# Altium schematic symbol library SVN_gost.SchLib: 41 symbols
Pins are listed as number, name and electrical type; pins without a type are passive.

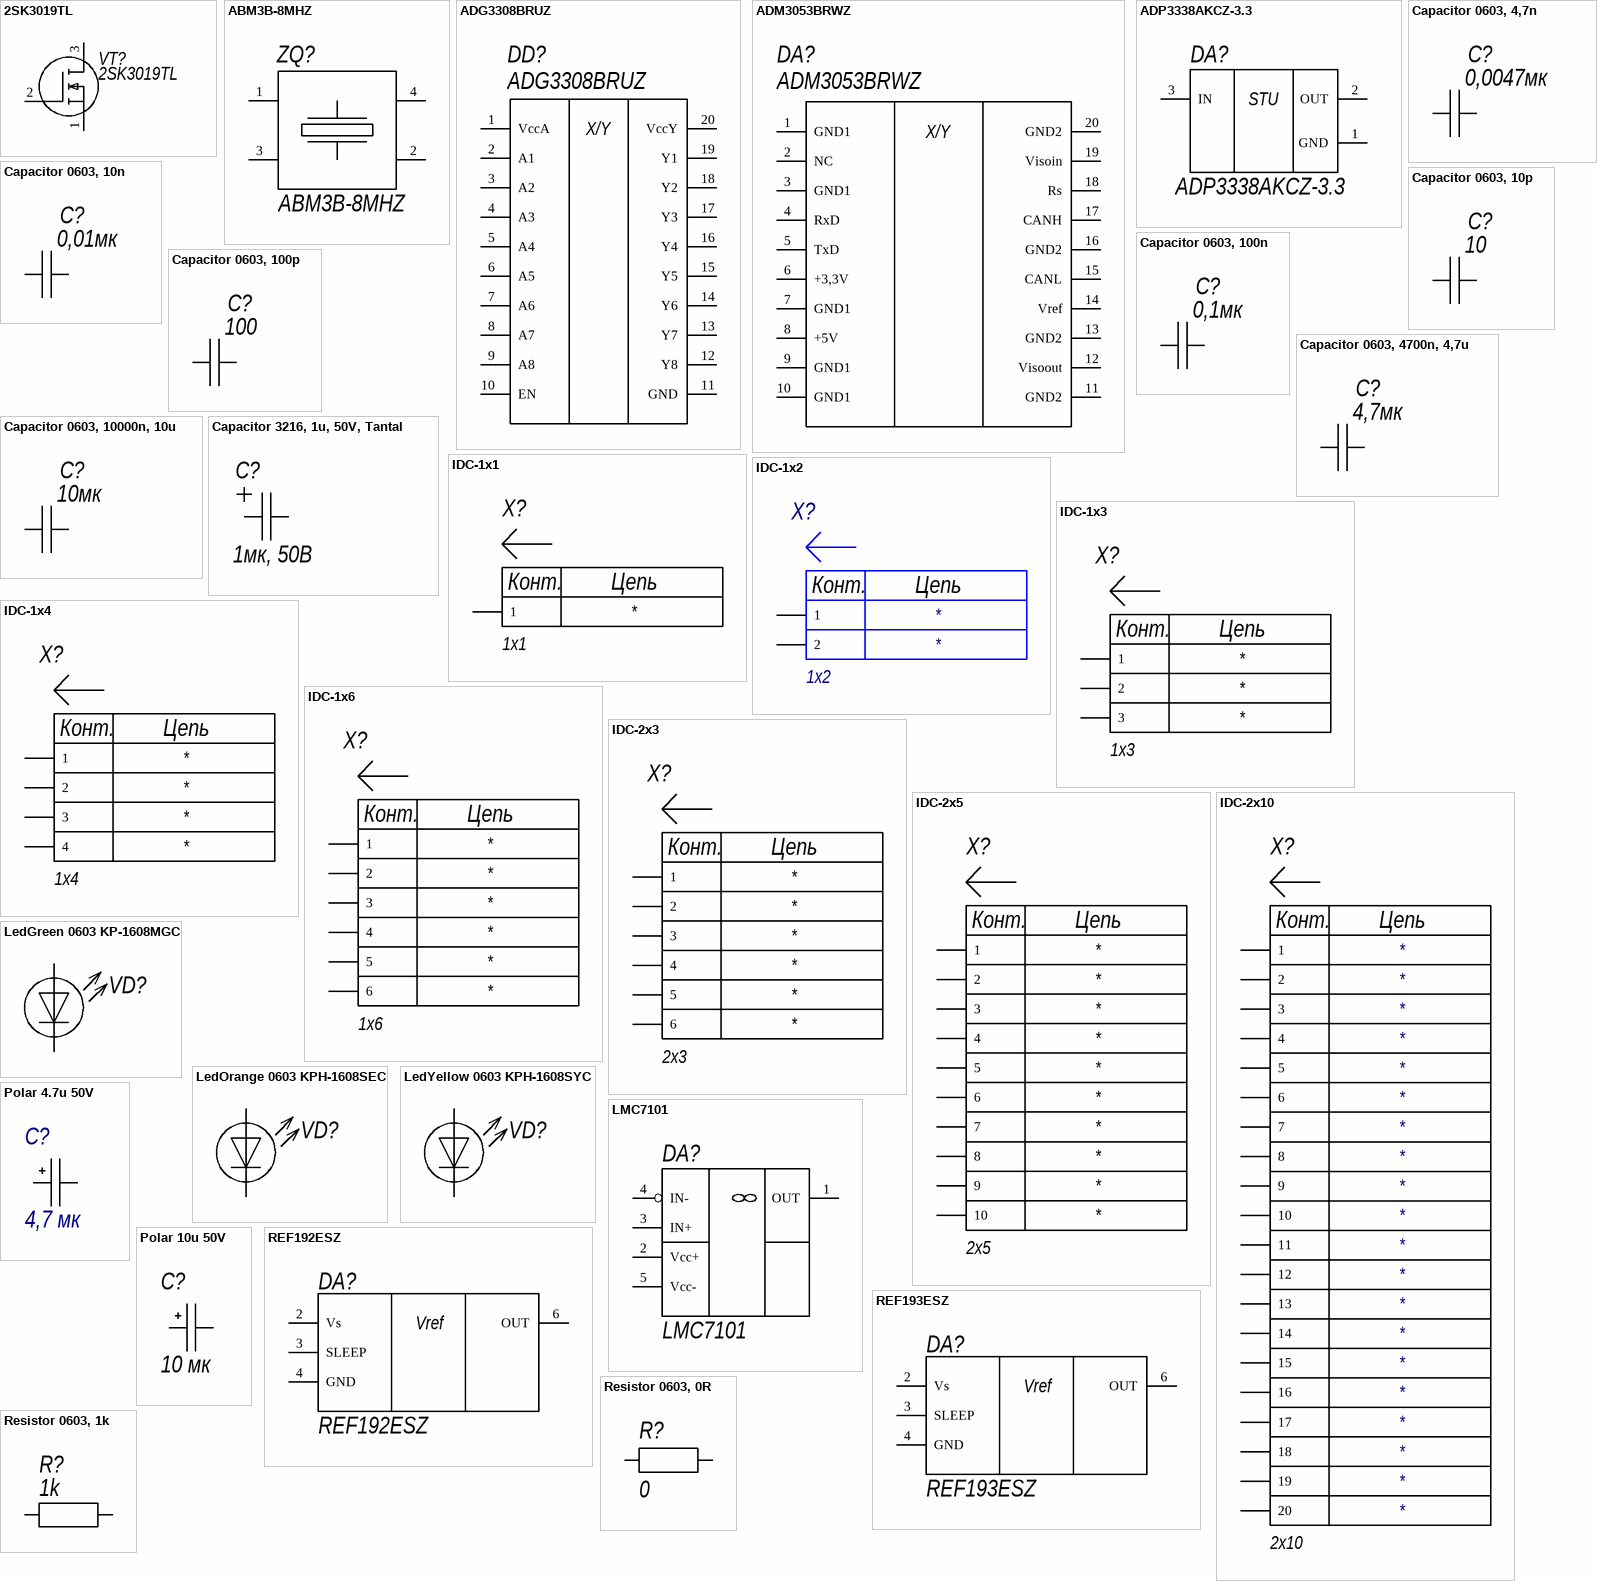
[diagram p0: symbols 2SK3019TL to Resistor 0603, 1k]

## 2SK3019TL
designator VT?
MOSFET (N-Channel); Manufacturer_Name: ROHM Semiconductor; Datasheet Link: http://www.mouser.com/ds/2/348/2sk3019-208766.pdf; Height: 0.8mm; Manufacturer_Part_Number: 2SK3019TL; Mouser Part Number: 755-2SK3019TL; Mouser Price/Stock: https://www.mouser.co.uk/ProductDetail/ROHM-Semiconductor/2SK3019TL?qs=4kLU8WoGk0vQcc5cG%2F%2FTDQ%3D%3D
footprint 2SK3019TL
pins: 1 S, 2 G, 3 D

## ABM3B-8MHZ
designator ZQ?
ABM3B-8MHZ, Кварцевый резонатор, 8МГц, QSMD5x3.2x1.1
footprint Quartz 5x3.2 mm
pins: 1 17, 2, 3, 4

## ADG3308BRUZ
designator DD?
ADG3308BRUZ, Согласователь уровней напряжения, двунаправленный
footprint SOP65P640X120-20N
pins: 1 VccA, 2 A1, 3 A2, 4 A3, 5 A4, 6 A5, 7 A6, 8 A7, 9 A8, 10 EN, 11 GND, 12 Y8, 13 Y7, 14 Y6, 15 Y5, 16 Y4, 17 Y3, 18 Y2, 19 Y1, 20 VccY
text: X/Y

## ADM3053BRWZ
designator DA?
ADM3053BRWZ, Изолированный трансивер шины CAN
footprint SOIC127P1032X265-20N
pins: 1 GND1, 2 NC, 3 GND1, 4 RxD, 5 TxD, 6 +3,3V, 7 GND1, 8 +5V, 9 GND1, 10 GND1, 11 GND2, 12 Visoout, 13 GND2, 14 Vref, 15 CANL, 16 GND2, 17 CANH, 18 Rs, 19 Visoin, 20 GND2
text: X/Y

## ADP3338AKCZ-3.3
designator DA?
ADP3338AKCZ-3.3, Регулятор с малым падением напряжения, 5->3.3В, 1А
footprint SOT-223 \w pad (TO-261-AA)
pins: 1 GND, 2 OUT, 3 IN
text: STU

## Capacitor 0603, 4,7n
designator C?, comment value 0,0047мк  (hidden comment: C0603)
Керамический, 0603, 0,0047мкФ, ±1%, 16В
footprint C_0603 (Chip Capacitor, Body 1.0x0.55mm, IPC Medium Density)
pins: 1, 2

## Capacitor 0603, 10n
designator C?, comment value 0,01мк  (hidden comment: C0603)
Керамический, 0603, 0,01мкФ, ±1%, 16В
footprint C_0603 (Chip Capacitor, Body 1.0x0.55mm, IPC Medium Density)
pins: 1, 2

## Capacitor 0603, 10p
designator C?, comment value 10  (hidden comment: C0603)
Керамический, 0603, 10пФ, ±1%, 16В
footprint C_0603 (Chip Capacitor, Body 1.0x0.55mm, IPC Medium Density)
pins: 1, 2

## Capacitor 0603, 100n
designator C?, comment value 0,1мк  (hidden comment: C0603)
Керамический, 0603, 0,1мкФ, ±1%, 16В
footprint C_0603 (Chip Capacitor, Body 1.0x0.55mm, IPC Medium Density)
pins: 1, 2

## Capacitor 0603, 100p
designator C?, comment value 100  (hidden comment: C0603)
Керамический, 0603, 100пФ, ±1%, 16В
footprint C_0603 (Chip Capacitor, Body 1.0x0.55mm, IPC Medium Density)
pins: 1, 2

## Capacitor 0603, 4700n, 4,7u
designator C?, comment value 4,7мк  (hidden comment: C0603)
Керамический, 0603, 4,7мкФ, ±1%, 16В
footprint C_0603 (Chip Capacitor, Body 1.0x0.55mm, IPC Medium Density)
pins: 1, 2

## Capacitor 0603, 10000n, 10u
designator C?, comment value 10мк  (hidden comment: C0603)
Керамический, 0603, 10мкФ, ±1%, 16В
footprint C_0603 (Chip Capacitor, Body 1.0x0.55mm, IPC Medium Density)
pins: 1, 2

## Capacitor 3216, 1u, 50V, Tantal
designator C?, comment 1мк, 50В
Танталовый, 3216, 1мкФ±1%, 50В; Type: *; Value: 1мк, 50В
footprint C_3216_1206_TypeA (Capacitor, Polarized, Molded  Body 3.2x1.6mm, IPC Medium Density)
pins: 1, 2

## IDC-1x1
designator X?, comment 1x1
Разъем на плату 1 контакт, 1 ряд, шаг 2,54 мм; Parameter 1: *
footprint Header_1x3_PLD (3 Contacts - Pitch 2.54mm - Dual Row Through Mount Straight Header (Post Lead = 6.35mm, Tail Lead 3.05mm, Insulator 1.52mm))
footprint Header_1x3_WF-3 (4 Contacts - Pitch 2.54mm - Dual Row Through Mount Straight Header (Post Lead = 6.35mm, Tail Lead 3.05mm, Insulator 1.52mm))
footprint Header_1x3_WF-3R (4 Contacts - Pitch 2.54mm - Dual Row Through Mount Straight Header (Post Lead = 6.35mm, Tail Lead 3.05mm, Insulator 1.52mm))
footprint KLS2-104-5.00-02P-4S (Винтовой клеммник 5мм, 45 град.)
pins: 1
text: Конт.; Цепь

## IDC-1x2
designator X?, comment 1x2
Разъем на плату 2 контактa, 1 ряд, шаг 2,54 мм; Parameter 2: *; Parameter 1: *
footprint Header_1x3_PLD (3 Contacts - Pitch 2.54mm - Dual Row Through Mount Straight Header (Post Lead = 6.35mm, Tail Lead 3.05mm, Insulator 1.52mm))
footprint Header_1x3_WF-3 (4 Contacts - Pitch 2.54mm - Dual Row Through Mount Straight Header (Post Lead = 6.35mm, Tail Lead 3.05mm, Insulator 1.52mm))
footprint Header_1x3_WF-3R (4 Contacts - Pitch 2.54mm - Dual Row Through Mount Straight Header (Post Lead = 6.35mm, Tail Lead 3.05mm, Insulator 1.52mm))
footprint KLS2-104-5.00-02P-4S (Винтовой клеммник 5мм, 45 град.)
pins: 1, 2
text: Конт.; Цепь

## IDC-1x3
designator X?, comment 1x3
Разъем на плату 3 контактa, 1 ряд, шаг 2,54 мм; Parameter 3: *; Parameter 2: *; Parameter 1: *
footprint Header_1x3_PLD (3 Contacts - Pitch 2.54mm - Dual Row Through Mount Straight Header (Post Lead = 6.35mm, Tail Lead 3.05mm, Insulator 1.52mm))
footprint Header_1x3_WF-3 (4 Contacts - Pitch 2.54mm - Dual Row Through Mount Straight Header (Post Lead = 6.35mm, Tail Lead 3.05mm, Insulator 1.52mm))
footprint Header_1x3_WF-3R (4 Contacts - Pitch 2.54mm - Dual Row Through Mount Straight Header (Post Lead = 6.35mm, Tail Lead 3.05mm, Insulator 1.52mm))
pins: 1, 2, 3
text: Конт.; Цепь

## IDC-1x4
designator X?, comment 1x4
Разъем на плату 4 контактa, 1 ряд, шаг 2,54 мм; Parameter 4: *; Parameter 3: *; Parameter 2: *; Parameter 1: *
footprint Header_1x4_PLD (6 Contacts - Pitch 2.54mm - Single Row Through Mount Straight Header (Post Lead = 6.35mm, Tail Lead 3.05mm, Insulator 1.52mm))
pins: 1, 2, 3, 4
text: Конт.; Цепь

## IDC-1x6
designator X?, comment 1x6
Разъем на плату 6 контактов, 1 ряд, шаг 2,54 мм; Parameter 6: *; Parameter 5: *; Parameter 4: *; Parameter 3: *; Parameter 2: *; Parameter 1: *
footprint Header_1x6_PLD (6 Contacts - Pitch 2.54mm - Single Row Through Mount Straight Header (Post Lead = 6.35mm, Tail Lead 3.05mm, Insulator 1.52mm))
pins: 1, 2, 3, 4, 5, 6
text: Конт.; Цепь

## IDC-2x3
designator X?, comment 2x3
Разъем на плату 6 контактов, 2 ряда, шаг 2,54 мм; Parameter 6: *; Parameter 5: *; Parameter 4: *; Parameter 3: *; Parameter 2: *; Parameter 1: *
footprint Header_2x3_BH (BH-6_IDC-6_DS-1013-06S)
footprint Header_2x3_BH_ang (BH-6R_IDC-6MR_DS-1013-06R)
footprint Header_2x3_PLD (6 Contacts - Pitch 2.54mm - Dual Row Through Mount Straight Header (Post Lead = 6.35mm, Tail Lead 3.05mm, Insulator 1.52mm))
footprint Header_2x3_PLD_ang
footprint Feader_2x3 (6 Contacts - Pitch 2.54mm - Dual Row Through Mount Straight Header (Post Lead = 6.35mm, Tail Lead 3.05mm, Insulator 1.52mm))
pins: 1, 2, 3, 4, 5, 6
text: Конт.; Цепь

## IDC-2x5
designator X?, comment 2x5
Разъем на плату 10 контактов, 2 ряда, шаг 2,54 мм; Parameter 10: *; Parameter 8: *; Parameter 9: *; Parameter 7: *; Parameter 6: *; Parameter 5: *; Parameter 4: *; Parameter 3: *; Parameter 2: *; Parameter 1: *
footprint Header_2x5_BH (BH-10_IDC-10_DS-1013-10S)
pins: 1, 2, 3, 4, 5, 6, 7, 8, 9, 10
text: Конт.; Цепь

## IDC-2x10
designator X?, comment 2x10
Разъем на плату 20 контактов, 2 ряда, шаг 2,54 мм; Parameter 20: *; Parameter 19: *; Parameter 18: *; Parameter 17: *; Parameter 16: *; Parameter 15: *; Parameter 14: *; Parameter 13: *; Parameter 12: *; Parameter 11: *; Parameter 10: *; Parameter 8: *; Parameter 9: *; Parameter 7: *; Parameter 6: *; Parameter 5: *; Parameter 4: *; Parameter 3: *; Parameter 2: *; Parameter 1: *
footprint Header_2x10_BH (BH-20_IDC-20_DS-1013-20S)
pins: 1, 2, 3, 4, 5, 6, 7, 8, 9, 10, 11, 12, 13, 14, 15, 16, 17, 18, 19, 20
text: Конт.; Цепь

## LedGreen 0603 KP-1608MGC
designator VD?
KP-1608MGC, светодиод зеленый, 0603
footprint Led_0603_GREEN (GREEN)
footprint Led_0603_Orange (Orange)
footprint Led_0603_RED (RED)
footprint Led_0603_YELLOW (YELLOW)
pins: 1, 2

## LedOrange 0603 KPH-1608SEC
designator VD?
KPH-1608SEC, светодиод оранжевый, 0603
footprint Led_0603_GREEN (GREEN)
footprint Led_0603_Orange (Orange)
footprint Led_0603_RED (RED)
footprint Led_0603_YELLOW (YELLOW)
pins: 1, 2

## LedYellow 0603 KPH-1608SYC
designator VD?
KPH-1608SYC, светодиод желтый, 0603
footprint Led_0603_GREEN (GREEN)
footprint Led_0603_Orange (Orange)
footprint Led_0603_RED (RED)
footprint Led_0603_YELLOW (YELLOW)
pins: 1, 2

## LMC7101
designator DA?
LMC7101, операционный усилитель, Rail-to-Rail; Type: OP07CP
footprint SOT23-5
pins: 1 OUT, 2 Vcc+, 3 IN+, 4 IN-, 5 Vcc-

## Polar 4.7u 50V
designator C?, comment value 4,7 мк  (hidden comment: Jamicon TK 4.7u 50V)
Polar 4.7u 50V; Type: *
footprint Polar_D5mm_F2mm_H11
pins: 1, 2

## Polar 10u 50V
designator C?, comment value 10 мк  (hidden comment: Jamicon TK 10u 50V)
Polar 10u 50V; Type: *
footprint C_3216_1206_TypeA (Capacitor, Polarized, Molded  Body 3.2x1.6mm, IPC Medium Density)
pins: 1, 2

## REF192ESZ
designator DA?
REF192ESZ, Источник опорного напряжения, питание 5В, выход 2,5В, 30мА
footprint SOIC127P600X175-8N
pins: 2 Vs, 3 SLEEP, 4 GND, 6 OUT
text: Vref

## REF193ESZ
designator DA?
REF193ESZ, Источник опорного напряжения, питание 5В, выход 3В, 30мА
footprint SOIC127P600X175-8N
pins: 2 Vs, 3 SLEEP, 4 GND, 6 OUT
text: Vref

## Resistor 0603, 0R
designator R?  value 0
Чип 0603, 0Ом, ±1%; Type: *
footprint R_0603 (Chip Resistor, EIA 0201, Metric 0603, Body 0.6 x 0.3mm, IPC Medium Density)
pins: 1, 2

## Resistor 0603, 1k
designator R?  value 1k
Чип 0603, 1кОм, ±1%; Type: *
footprint R_0603 (Chip Resistor, EIA 0201, Metric 0603, Body 0.6 x 0.3mm, IPC Medium Density)
pins: 1, 2

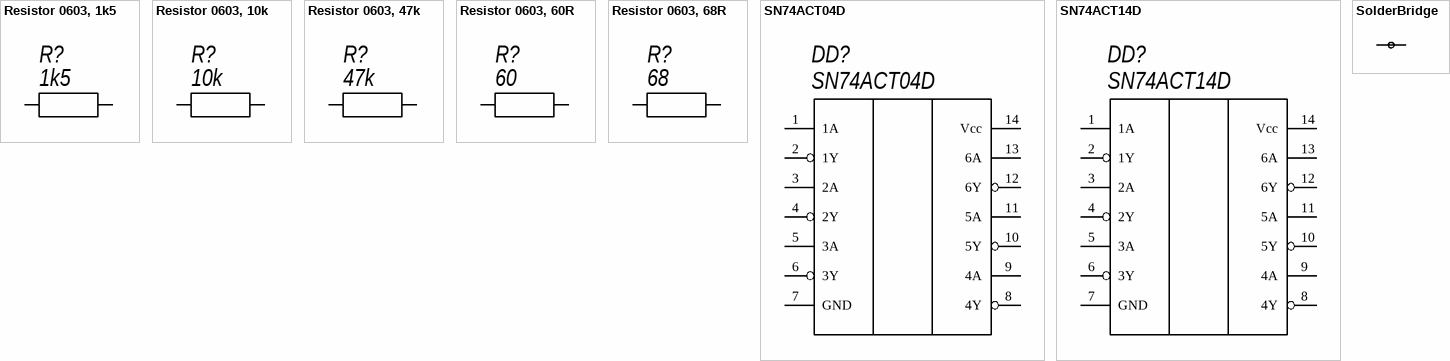
[diagram p1: symbols Resistor 0603, 1k5 to SolderBridge]

## Resistor 0603, 1k5
designator R?  value 1k5
Чип 0603, 1,5кОм, ±1%; Type: *
footprint R_0603 (Chip Resistor, EIA 0201, Metric 0603, Body 0.6 x 0.3mm, IPC Medium Density)
pins: 1, 2

## Resistor 0603, 10k
designator R?  value 10k
Чип 0603, 10кОм, ±1%; Type: *
footprint R_0603 (Chip Resistor, EIA 0201, Metric 0603, Body 0.6 x 0.3mm, IPC Medium Density)
pins: 1, 2

## Resistor 0603, 47k
designator R?  value 47k
Чип 0603, 47кОм, ±1%; Type: *
footprint R_0603 (Chip Resistor, EIA 0201, Metric 0603, Body 0.6 x 0.3mm, IPC Medium Density)
pins: 1, 2

## Resistor 0603, 60R
designator R?  value 60
Чип 0603, 60Ом, ±1%; Type: *
footprint R_0603 (Chip Resistor, EIA 0201, Metric 0603, Body 0.6 x 0.3mm, IPC Medium Density)
pins: 1, 2

## Resistor 0603, 68R
designator R?  value 68
Чип 0603, 68Ом, ±1%; Type: *
footprint R_0603 (Chip Resistor, EIA 0201, Metric 0603, Body 0.6 x 0.3mm, IPC Medium Density)
pins: 1, 2

## SN74ACT04D
designator DD?
SN74ACT04, Инвертер 6-ти канальный
footprint SOIC127P600X175-14N
pins: 1 1A, 2 1Y, 3 2A, 4 2Y, 5 3A, 6 3Y, 7 GND, 8 4Y, 9 4A, 10 5Y, 11 5A, 12 6Y, 13 6A, 14 Vcc

## SN74ACT14D
designator DD?
SN74ACT14, Триггер Шмитта инвертирующий, 6-ти канальный
footprint SOIC127P600X175-14N
pins: 1 1A, 2 1Y, 3 2A, 4 2Y, 5 3A, 6 3Y, 7 GND, 8 4Y, 9 4A, 10 5Y, 11 5A, 12 6Y, 13 6A, 14 Vcc

## SolderBridge
designator NT?  (value not drawn)  (net tie, no BOM)
Перемычка! в перечне не нужна!
footprint SB_1(E)
footprint SB_1(CO)
footprint SB_1(>>)
footprint NetTie
pins: 1, 2
1 alternate drawing of the same symbol

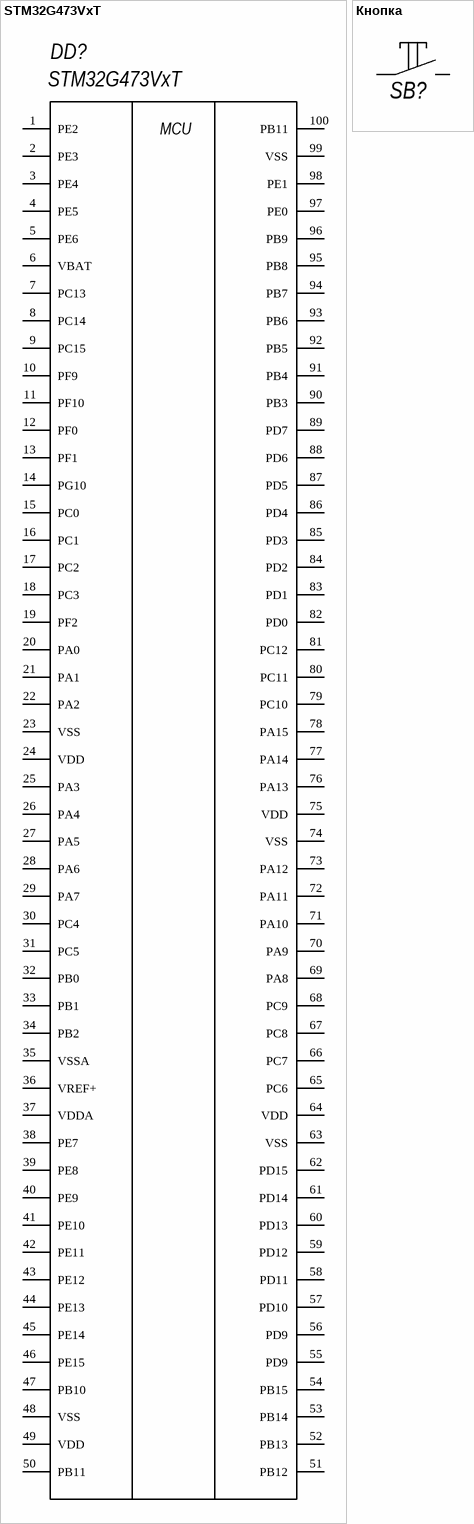
[diagram p2: symbols STM32G473VxT to Кнопка]

## STM32G473VxT
designator DD?
STM32G473VxT, микроконтроллер, ARM
footprint LQFP100-100N_STM
pins: 1 PE2, 2 PE3, 3 PE4, 4 PE5, 5 PE6, 6 VBAT, 7 PC13, 8 PC14, 9 PC15, 10 PF9, 11 PF10, 12 PF0, 13 PF1, 14 PG10, 15 PC0, 16 PC1, 17 PC2, 18 PC3, 19 PF2, 20 PA0, 21 PA1, 22 PA2, 23 VSS, 24 VDD, 25 PA3, 26 PA4, 27 PA5, 28 PA6, 29 PA7, 30 PC4, 31 PC5, 32 PB0, 33 PB1, 34 PB2, 35 VSSA, 36 VREF+, 37 VDDA, 38 PE7, 39 PE8, 40 PE9, 41 PE10, 42 PE11, 43 PE12, 44 PE13, 45 PE14, 46 PE15, 47 PB10, 48 VSS, 49 VDD, 50 PB11, 51 PB12, 52 PB13, 53 PB14, 54 PB15, 55 PD9, 56 PD9, 57 PD10, 58 PD11, 59 PD12, 60 PD13, 61 PD14, 62 PD15, 63 VSS, 64 VDD, 65 PC6, 66 PC7, 67 PC8, 68 PC9, 69 PA8, 70 PA9, 71 PA10, 72 PA11, 73 PA12, 74 VSS, 75 VDD, 76 PA13, 77 PA14, 78 PA15, 79 PC10, 80 PC11, 81 PC12, 82 PD0, 83 PD1, 84 PD2, 85 PD3, 86 PD4, 87 PD5, 88 PD6, 89 PD7, 90 PB3, 91 PB4, 92 PB5, 93 PB6, 94 PB7, 95 PB8, 96 PB9, 97 PE0, 98 PE1, 99 VSS, 100 PB11
text: MCU

## Кнопка
designator SB?, comment KLS7-TS6604-7.0-180-T  (value not drawn)
KLS7-TS6604-7.0-180-T, кнопка тактовая
footprint BUTTON_SMD
pins: 1, 3